# Altium footprint library GRM31CR61C226KE15L.PcbLib: 3 footprints
Each footprint in its own frame and in the unit in brackets; x right, y up, seen from the top. Pads: shape width x height; smd on the part's side, far side on the other; paste and mask are expansions set on the pad; w line width, h text height; cw(c..) or ccw(c..) is an arc to the next point about the centre after c.
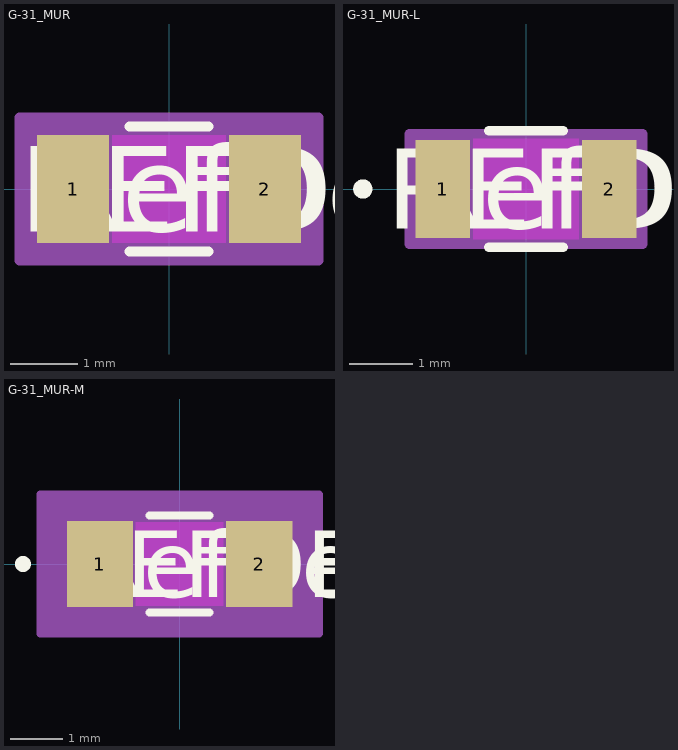
[diagram p0: the footprints below, top view; thin cyan lines are the x and y axes]

## G-31_MUR [mil]
pads (2):
  rect 42x63 smd paste+0 mask+0: 1(-56,0) 2(56,0)
Top Layer keep-out:
  region: -33,-29.5 -33,29.5 33,29.5 33,-29.5
Top Overlay:
  lines w6: -22.89,-36.5 22.89,-36.5 ; -22.89,36.5 22.89,36.5
  text "RefDes" at -75,-25 h50
  text "REFDES" at -87.5,-25 h50
Keep-Out Layer:
  region: -33,-31.5 -33,31.5 33,31.5 33,-31.5
Mechanical 13:
  circle w0: c-51,0 r0
  lines w1: -63,-31.5 -63,31.5 ; -63,-31.5 -35,-31.5 -35,31.5 -63,31.5 ; -63,-31.5 63,-31.5 ; -63,-31.5 -63,31.5 ; -63,31.5 63,31.5 ; 63,-31.5 35,-31.5 35,31.5 63,31.5 ; 63,-31.5 63,31.5 ; 63,-31.5 63,31.5
  text "RefDes2" at -87.5,-25 h50
Mechanical 15:
  region: 87,-41.5 -87,-41.5 -87,41.5 87,41.5
  lines w6: -87,-41.5 -87,41.5 87,41.5 87,-41.5 -87,-41.5
3D body "G-31_MUR.step": height 79.02, standoff 0, extent -62.99,-31.5 62.99,31.5

## G-31_MUR-L [mil]
pads (2):
  rect 34x61 smd paste+0 mask+0: 1(-52,0) 2(52,0)
Top Layer keep-out:
  region: -33,-29.5 -33,29.5 33,29.5 33,-29.5
Top Overlay:
  circle w6: c-102,0 r3
  lines w6: -23.35,-36.5 23.35,-36.5 ; -23.35,36.5 23.35,36.5
  text "RefDes" at -75,-25 h50
  text "REFDES" at -87.5,-25 h50
Keep-Out Layer:
  region: -33,-31.5 -33,31.5 33,31.5 33,-31.5
Mechanical 13:
  circle w0: c-47,0 r3
  lines w1: -63,-31.5 -63,31.5 ; -63,-31.5 -35,-31.5 -35,31.5 -63,31.5 ; -63,-31.5 63,-31.5 ; -63,-31.5 -63,31.5 ; -63,31.5 63,31.5 ; 63,-31.5 35,-31.5 35,31.5 63,31.5 ; 63,-31.5 63,31.5 ; 63,-31.5 63,31.5
  text "RefDes2" at -87.5,-25 h50
Mechanical 15:
  region: 73,-34.5 -73,-34.5 -73,34.5 73,34.5
  lines w6: -73,-34.5 -73,34.5 73,34.5 73,-34.5 -73,-34.5
3D body "G-31_MUR.step": height 79.02, standoff 0, extent -62.99,-31.5 62.99,31.5

## G-31_MUR-M [mil]
pads (2):
  rect 50x65 smd paste+0 mask+0: 1(-60,0) 2(60,0)
Top Layer keep-out:
  region: -33,-29.5 -33,29.5 33,29.5 33,-29.5
Top Overlay:
  circle w6: c-118,0 r3
  lines w6: -22.53,-36.5 22.53,-36.5 ; -22.53,36.5 22.53,36.5
  text "RefDes" at -75,-25 h50
  text "REFDES" at -87.5,-25 h50
Keep-Out Layer:
  region: -33,-31.5 -33,31.5 33,31.5 33,-31.5
Mechanical 13:
  circle w0: c-55,0 r3
  lines w1: -63,-31.5 -63,31.5 ; -63,-31.5 -35,-31.5 -35,31.5 -63,31.5 ; -63,-31.5 63,-31.5 ; -63,-31.5 -63,31.5 ; -63,31.5 63,31.5 ; 63,-31.5 35,-31.5 35,31.5 63,31.5 ; 63,-31.5 63,31.5 ; 63,-31.5 63,31.5
  text "RefDes2" at -87.5,-25 h50
Mechanical 15:
  region: 105,-52.5 -105,-52.5 -105,52.5 105,52.5
  lines w6: -105,-52.5 -105,52.5 105,52.5 105,-52.5 -105,-52.5
3D body "G-31_MUR.step": height 79.02, standoff 0, extent -62.99,-31.5 62.99,31.5